# Altium footprint library sonar_DAQ.PcbLib: 11 footprints
Each footprint in its own frame and in the unit in brackets; x right, y up, seen from the top. Pads: shape width x height; smd on the part's side, far side on the other; paste and mask are expansions set on the pad; w line width, h text height; cw(c..) or ccw(c..) is an arc to the next point about the centre after c.
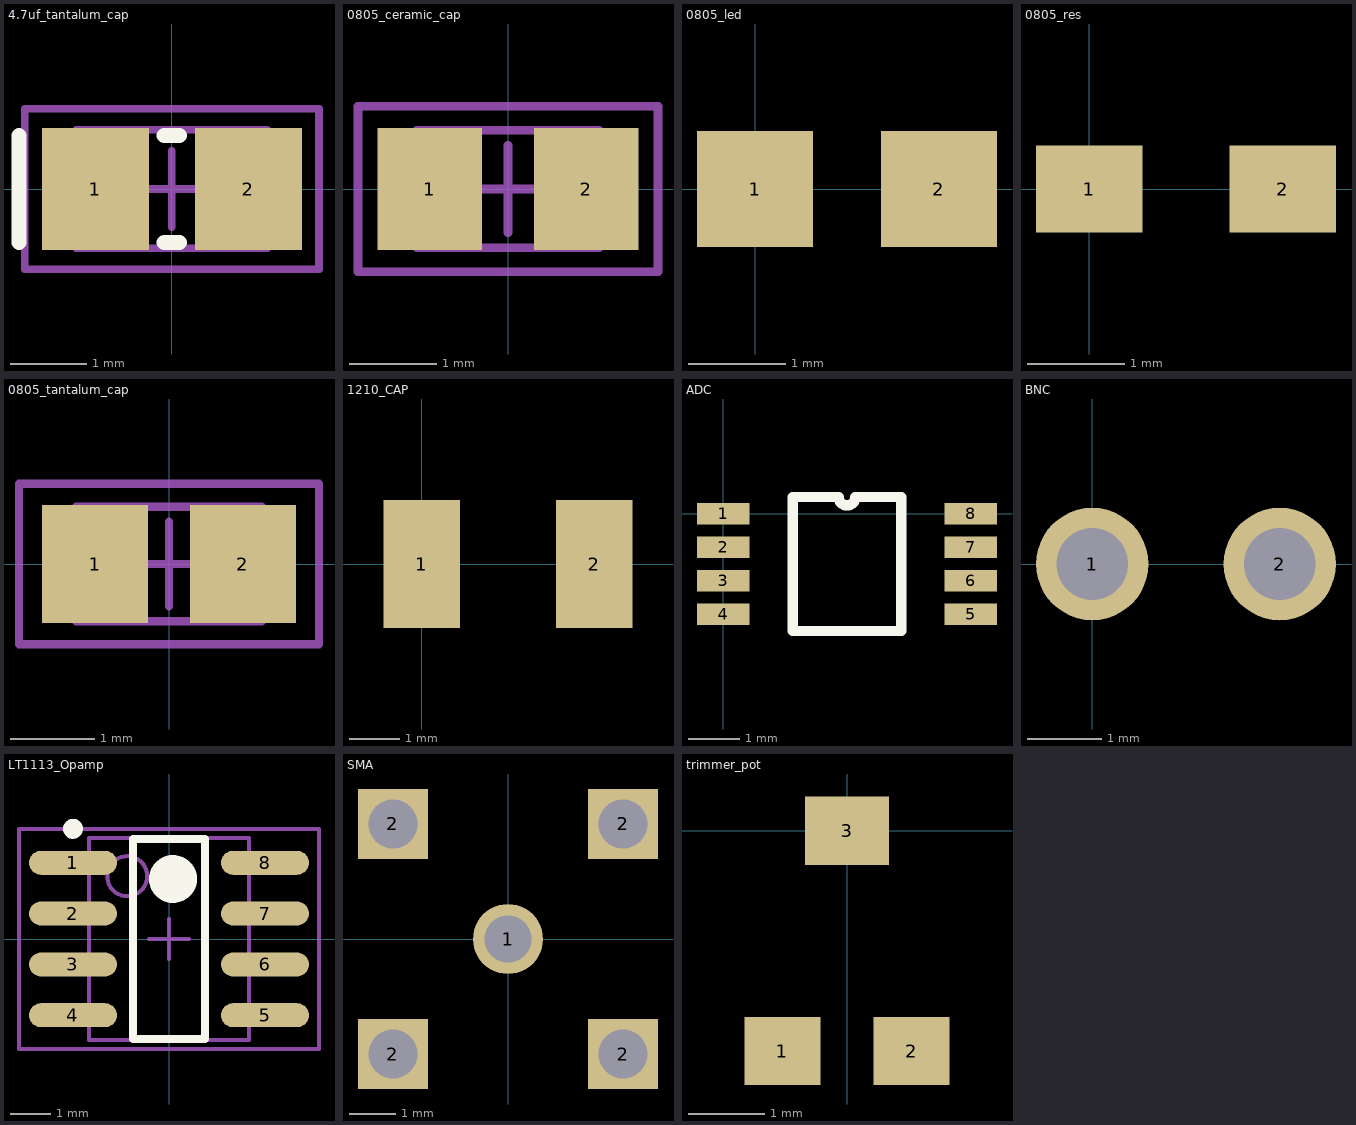
[diagram p0: the footprints below, top view; thin cyan lines are the x and y axes]

## 4.7uf_tantalum_cap [mm] "F95 Nichicon"
height 1.2
pads (2):
  rect 1.4x1.6 smd: 1(-1,0) 2(1,0)
Top Overlay:
  lines w0.2: -2,-0.7 -2,0.7 ; -0.1,-0.7 0.1,-0.7 ; -0.1,0.7 0.1,0.7
Mechanical 13:
  lines w0.1: -1.25,-0.775 -1.25,0.775 1.25,0.775 1.25,-0.775 -1.25,-0.775
Mechanical 15:
  lines w0.1: -0.5,0 0.5,0 ; 0,-0.5 0,0.5 ; -1.925,-1.05 -1.925,1.05 1.925,1.05 1.925,-1.05 -1.925,-1.05
3D body: height 1.2, standoff 0, extent -1.25,-0.775 1.25,0.775

## 0805_ceramic_cap [mm] "Murata"
height 1.26
pads (2):
  rect 1.2x1.4 smd: 1(-0.9,0) 2(0.9,0)
Mechanical 13:
  lines w0.1: -1.05,-0.675 -1.05,0.675 1.05,0.675 1.05,-0.675 -1.05,-0.675
Mechanical 15:
  lines w0.1: -0.5,0 0.5,0 ; 0,-0.5 0,0.5 ; -1.725,-0.95 -1.725,0.95 1.725,0.95 1.725,-0.95 -1.725,-0.95
3D body: height 1.26, standoff 0, extent -1.05,-0.675 1.05,0.675

## 0805_led [mm]
pads (2):
  rect 1.2x1.2 smd: 1(0,0) 2(1.9,0)

## 0805_res [mm]
pads (2):
  rect 1.1x0.9 smd: 1(0,0) 2(2,0)

## 0805_tantalum_cap [mm] "F92 Nichicon"
height 1.2
pads (2):
  rect 1.25x1.4 smd: 1(-0.875,0) 2(0.875,0)
Mechanical 13:
  lines w0.1: -1.1,-0.675 -1.1,0.675 1.1,0.675 1.1,-0.675 -1.1,-0.675
Mechanical 15:
  lines w0.1: -0.5,0 0.5,0 ; 0,-0.5 0,0.5 ; -1.775,-0.95 -1.775,0.95 1.775,0.95 1.775,-0.95 -1.775,-0.95
3D body: height 1.2, standoff 0, extent -1.1,-0.675 1.1,0.675

## 1210_CAP [mm]
pads (2):
  rect 1.52x2.54 smd: 1(0,0) 2(3.43,0)

## ADC [mm]
pads (8):
  rect 1.02x0.41 smd: 1(0,0) 2(0,-0.65) 3(0,-1.3) 4(0,-1.95) 5(4.8,-1.95) 6(4.8,-1.3) 7(4.8,-0.65) 8(4.8,0)
Top Overlay:
  lines w0.2: 1.345,-2.275 1.345,0.325 2.238,0.325 ccw(c2.4,0.325) 2.562,0.325 3.455,0.325 3.455,-2.275 1.345,-2.275

## BNC [mil]
pads (2):
  round 60 hole 38.19: 1(0,0) 2(100,0)
via 200,-200 diameter 107.87 hole 82.28
via -200,-200 diameter 107.87 hole 82.28
3D body: height 635, standoff 0, extent -300,-1775 300,50
3D body: height 625, standoff 0, extent -287.5,-1800 287.5,-1775

## LT1113_Opamp [mm] "SOIC, 8-Leads, Body 5.0x4.0mm (max), Pitch 1.27mm, IPC Medium Density"
height 1.752
pads (8):
  oval 2.2x0.6 smd: 1(-2.4,1.905) 2(-2.4,0.635) 3(-2.4,-0.635) 4(-2.4,-1.905) 5(2.4,-1.905) 6(2.4,-0.635) 7(2.4,0.635) 8(2.4,1.905)
Top Overlay:
  circle w0.6: c0.1,1.5 r0.3
  circle w0.25: c-2.4,2.755 r0.125
  lines w0.2: -0.9,-2.5 0.9,-2.5 0.9,2.5 -0.9,2.5 -0.9,-2.5
Mechanical 13:
  circle w0.1: c-1.045,1.57 r0.5
  lines w0.1: -1.995,-2.52 1.995,-2.52 1.995,2.52 -1.995,2.52 -1.995,-2.52
Mechanical 15:
  lines w0.1: -0.5,0 0.5,0 ; 0,-0.5 0,0.5 ; -3.75,-2.75 3.75,-2.75 3.75,2.75 -3.75,2.75 -3.75,-2.75
3D body: height 1.75, standoff 0.2, extent -1.995,-2.52 1.995,2.52

## SMA [mm]
pads (5):
  round 1.5 hole 1: 1(0,0)
  rect 1.5x1.5 hole 1.05 square: 2(-2.47,-2.47) 2(-2.47,2.47) 2(2.47,-2.47) 2(2.47,2.47)
3D body: height 10.3, standoff 0, extent -3.302,-3.302 3.302,3.302
3D body: height 10.29, standoff 3.71, extent -3.302,3.302 3.272,12.602

## trimmer_pot [mm]
height 1.15
pads (3):
  rect 1x0.9 smd: 1(-0.85,-2.9) 2(0.85,-2.9)
  rect 1.1x0.9 smd: 3(0,0)